# Altium footprint library PicoBlade-53261.PcbLib: 6 footprints
Each footprint in its own frame and in the unit in brackets; x right, y up, seen from the top. Pads: shape width x height; smd on the part's side, far side on the other; paste and mask are expansions set on the pad; w line width, h text height; cw(c..) or ccw(c..) is an arc to the next point about the centre after c.
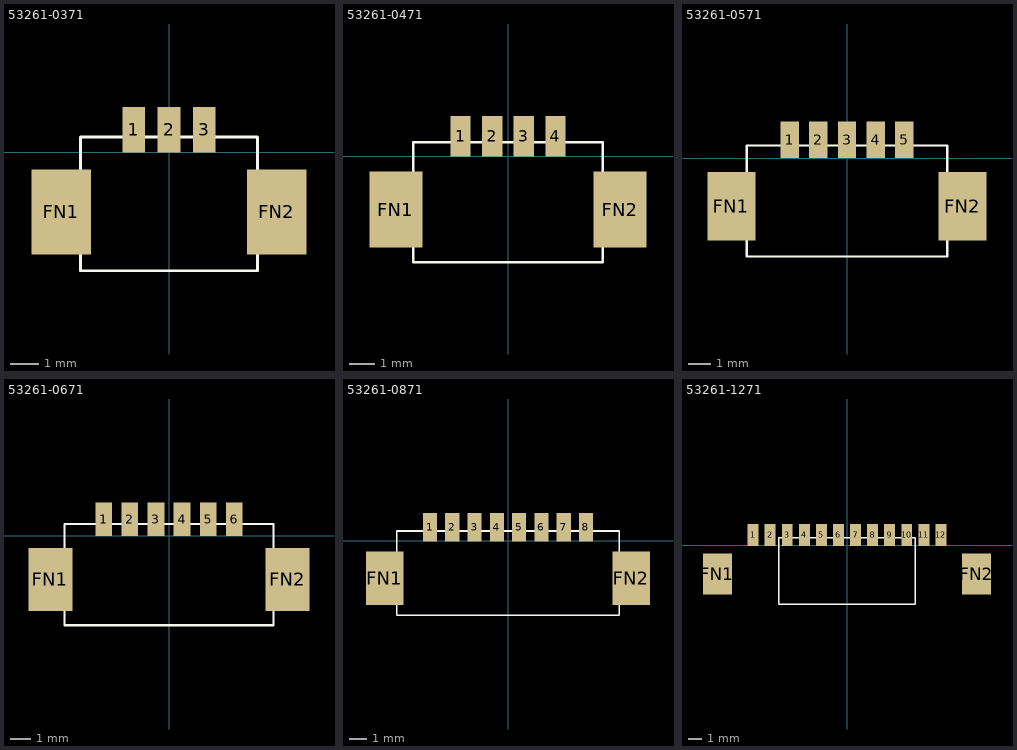
[diagram p0: the footprints below, top view; thin cyan lines are the x and y axes]

## 53261-0371 [mm]
pads (5):
  rect 0.8x1.6 smd: 1(-1.25,0.8) 2(0,0.8) 3(1.25,0.8)
  rect 2.1x3 smd: FN1(-3.8,-2.1) FN2(3.8,-2.1)
Top Overlay:
  lines w0.1: -3.125,-4.18 3.125,-4.18 3.125,0.55 -3.125,0.55 -3.125,-4.18
3D body "532610371.stp": height 3.38, standoff -0.02, extent -4.45,-4.165 4.45,1.035

## 53261-0471 [mm]
pads (6):
  rect 0.8x1.6 smd: 1(-1.875,0.8) 2(-0.625,0.8) 3(0.625,0.8) 4(1.875,0.8)
  rect 2.1x3 smd: FN1(-4.425,-2.1) FN2(4.425,-2.1)
Top Overlay:
  lines w0.1: -3.75,-4.18 -3.75,0.55 3.75,0.55 3.75,-4.18 -3.75,-4.18
3D body "532610471.stp": height 3.38, standoff -0.02, extent -5.075,-4.165 5.075,1.035

## 53261-0571 [mm]
pads (7):
  rect 0.8x1.6 smd: 1(-2.5,0.8) 2(-1.25,0.8) 3(0,0.8) 4(1.25,0.8) 5(2.5,0.8)
  rect 2.1x3 smd: FN1(-5.05,-2.1) FN2(5.05,-2.1)
Top Overlay:
  lines w0.1: -4.375,-4.29 4.375,-4.29 4.375,0.55 -4.375,0.55 -4.375,-4.29
3D body "532610571.stp": height 3.38, standoff -0.02, extent -5.7,-4.275 5.7,0.925

## 53261-0671 [mm]
pads (8):
  rect 0.8x1.6 smd: 1(-3.125,0.77) 2(-1.875,0.77) 3(-0.625,0.77) 4(0.625,0.77) 5(1.875,0.77) 6(3.125,0.77)
  rect 2.1x3 smd: FN1(-5.675,-2.1) FN2(5.675,-2.1)
Top Overlay:
  lines w0.1: -5,-4.29 -5,0.55 5,0.55 5,-4.29 -5,-4.29
3D body: height 1.6, standoff -1.8, extent 0,-1.65 0,-1.65
3D body "532610671.stp": height 3.38, standoff -0.02, extent -6.325,-4.275 6.325,0.925

## 53261-0871 [mm]
pads (10):
  rect 0.8x1.6 smd: 1(-4.375,0.77) 2(-3.125,0.77) 3(-1.875,0.77) 4(-0.625,0.77) 5(0.625,0.77) 6(1.875,0.77) 7(3.125,0.77) 8(4.375,0.77)
  rect 2.1x3 smd: FN1(-6.925,-2.1) FN2(6.925,-2.1)
Top Overlay:
  lines w0.1: -6.25,-4.18 -6.25,0.55 6.25,0.55 6.25,-4.18 -6.25,-4.18
3D body: height 0.25, standoff 0, extent 0,-1.54 0,-1.54
3D body "532610871.stp": height 3.38, standoff -0.02, extent -7.5,-4.14 7.65,1.06

## 53261-1271 [mm]
pads (14):
  rect 0.8x1.6 smd: 1(-6.875,0.77) 2(-5.625,0.77) 3(-4.375,0.77) 4(-3.125,0.77) 5(-1.875,0.77) 6(-0.625,0.77) 7(0.625,0.77) 8(1.875,0.77) 9(3.125,0.77) 10(4.375,0.77) 11(5.625,0.77) 12(6.875,0.77)
  rect 2.1x3 smd: FN1(-9.485,-2.1) FN2(9.485,-2.1)
Top Overlay:
  lines w0.1: -5,-4.29 5,-4.29 5,0.55 -5,0.55 -5,-4.29
3D body "532611271.stp": height 3.38, standoff -0.02, extent -10.075,-4.275 10.075,0.925
3D body: height 1.6, standoff -1.8, extent 0,-1.65 0,-1.65